# Altium footprint library D2PAK.PcbLib: 1 footprints
Each footprint in its own frame and in the unit in brackets; x right, y up, seen from the top. Pads: shape width x height; smd on the part's side, far side on the other; paste and mask are expansions set on the pad; w line width, h text height; cw(c..) or ccw(c..) is an arc to the next point about the centre after c.
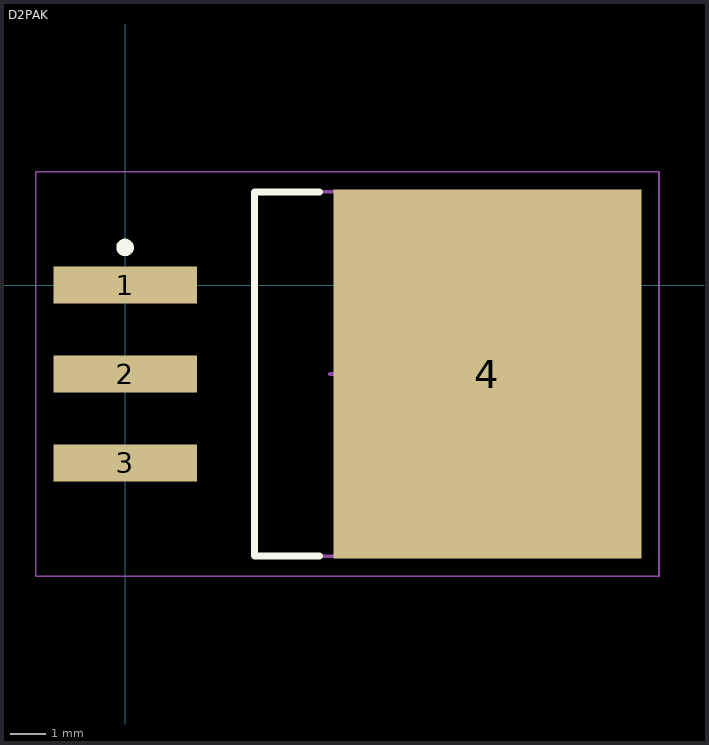
[diagram p0: the footprint, top view; thin cyan lines are the x and y axes]

## D2PAK [mm]
pads (4):
  rect 4.1x1.05 smd: 1(0,0) 2(0,-2.54) 3(0,-5.08)
  rect 8.8x10.55 smd: 4(10.35,-2.54)
Top Overlay:
  circle w0.25: c0,1.075 r0.125
  lines w0.2: 5.55,-7.74 3.7,-7.74 3.7,2.66 5.55,2.66
Mechanical 13:
  lines w0.1: 3.7,-7.74 3.7,2.66 13.05,2.66 13.05,-7.74 3.7,-7.74
Mechanical 15:
  lines w0.05: -2.55,-8.315 -2.55,3.235 15.25,3.235 15.25,-8.315 -2.55,-8.315
  lines w0.1: 5.85,-2.54 6.85,-2.54 ; 6.35,-3.04 6.35,-2.04
3D body: height 4.6, standoff 0.03, extent 3.7,-7.74 13.05,2.66